# EAGLE library part AT89C*051 (library 00_koarl-div)
AT89x51: wird nie eingelötet, sondern in versenkte PreciDIP-pins gesteckt!
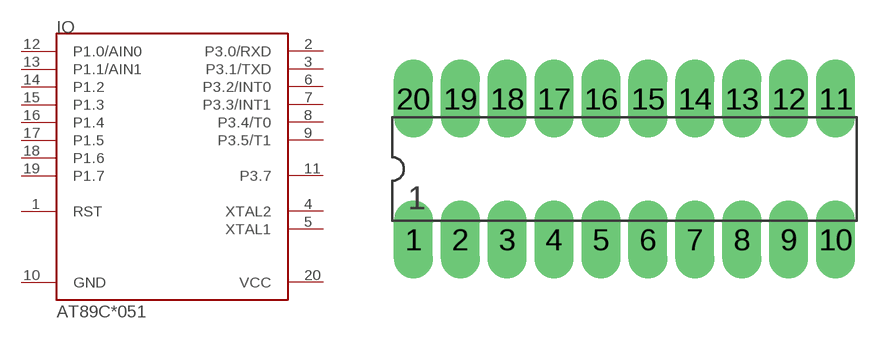
[diagram p17: symbol with the pads of DIL20_PINHOLE; footprint DIL20_PINHOLE]

Designator prefix IO

## AT89C051  [DIL20_PINHOLE]
1  RST  pwr
2  P3.0/RXD
3  P3.1/TXD
4  XTAL2  pwr
5  XTAL1  pwr
6  P3.2/INT0
7  P3.3/INT1
8  P3.4/T0
9  P3.5/T1
10  GND  pwr
11  P3.7
12  P1.0/AIN0
13  P1.1/AIN1
14  P1.2
15  P1.3
16  P1.4
17  P1.5
18  P1.6
19  P1.7
20  VCC  pwr

## Footprint DIL20_PINHOLE (pad centres in mm)
drill 1.4 pad 1.6 long: 1 -11.43,-3.81; 2 -8.89,-3.81; 3 -6.35,-3.81; 4 -3.81,-3.81; 5 -1.27,-3.81; 6 1.27,-3.81; 7 3.81,-3.81; 8 6.35,-3.81; 9 8.89,-3.81; 10 11.43,-3.81; 11 11.43,3.81; 12 8.89,3.81; 13 6.35,3.81; 14 3.81,3.81; 15 1.27,3.81; 16 -1.27,3.81; 17 -3.81,3.81; 18 -6.35,3.81; 19 -8.89,3.81; 20 -11.43,3.81